# EAGLE library part RXM-900-HP3_SIP (library My_Parts)
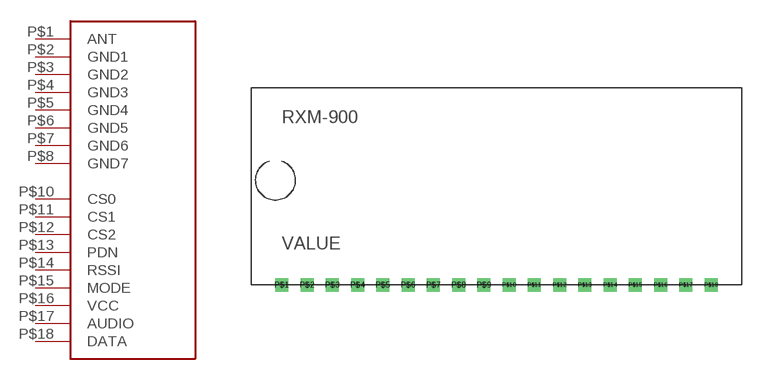
[diagram p3: symbol with the pads of RXM-900-SIP; footprint RXM-900-SIP]

Designator prefix -

## RXM-900-HP3_SIP  [RXM-900-SIP]
P$1  ANT
P$2  GND1
P$3  GND2
P$4  GND3
P$5  GND4
P$6  GND5
P$7  GND6
P$8  GND7
P$10  CS0
P$11  CS1
P$12  CS2
P$13  PDN
P$14  RSSI
P$15  MODE
P$16  VCC
P$17  AUDIO
P$18  DATA

## Footprint RXM-900-SIP (pad centres in mm)
drill 0.8 pad 0.762 square: P$1 -21.59,-9.906; P$2 -19.05,-9.906; P$3 -16.51,-9.906; P$4 -13.97,-9.906; P$5 -11.43,-9.906; P$6 -8.89,-9.906; P$7 -6.35,-9.906; P$8 -3.81,-9.906; P$9 -1.27,-9.906; P$10 1.27,-9.906; P$11 3.81,-9.906; P$12 6.35,-9.906; P$13 8.89,-9.906; P$14 11.43,-9.906; P$15 13.97,-9.906; P$16 16.51,-9.906; P$17 19.05,-9.906; P$18 21.59,-9.906